# Altium integrated library SAMTEC-HTSW-101-07-X-S.IntLib: 1 symbol
Pins are listed as number, name and electrical type; pins without a type are passive.

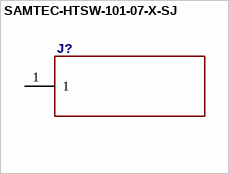
[diagram p0: symbol SAMTEC-HTSW-101-07-X-SJ]

## SAMTEC-HTSW-101-07-X-SJ
designator J?
footprint SAMTEC-HTSW-101-07-X-S
pins: 1